# EAGLE library part IC74HC30 (library chuong)
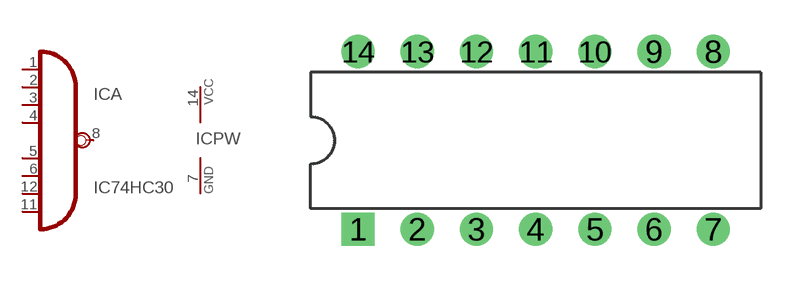
[diagram p78: symbol with the pads of DIL-14; footprint DIL-14]

Designator prefix IC; gates A=IC74HC30 PW=POWER

## IC74HC30  [DIL-14]
1  A:I0  in
2  A:I1  in
3  A:I2  in
4  A:I3  in
5  A:I4  in
6  A:I5  in
7  PW:GND  pwr
8  A:O  out
11  A:I7  in
12  A:I6  in
14  PW:VCC  pwr

## Footprint DIL-14 (pad centres in mm)
drill 0.61 pad 1.422 square: 1 -7.62,-3.81
drill 0.61 pad 1.422 round: 2 -5.08,-3.81; 3 -2.54,-3.81; 4 0,-3.81; 5 2.54,-3.81; 6 5.08,-3.81; 7 7.62,-3.81; 8 7.62,3.81; 9 5.08,3.81; 10 2.54,3.81; 11 0,3.81; 12 -2.54,3.81; 13 -5.08,3.81; 14 -7.62,3.81